# Altium footprint library 4816P-1-223LF.PCBLIB: 1 footprints
Each footprint in its own frame and in the unit in brackets; x right, y up, seen from the top. Pads: shape width x height; smd on the part's side, far side on the other; paste and mask are expansions set on the pad; w line width, h text height; cw(c..) or ccw(c..) is an arc to the next point about the centre after c.
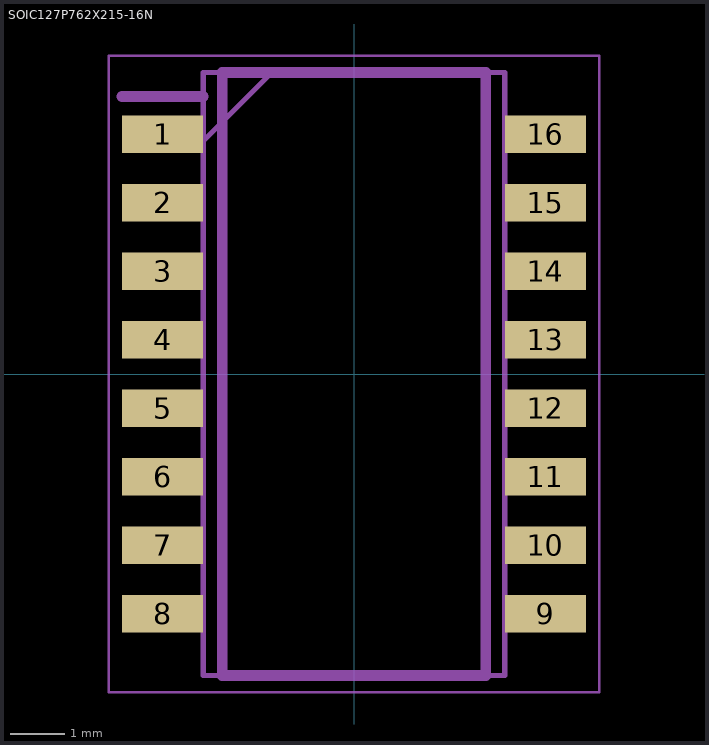
[diagram p0: the footprint, top view; thin cyan lines are the x and y axes]

## SOIC127P762X215-16N [mm]
pads (16):
  rect 1.505x0.7 smd: 1(-3.548,4.445) 2(-3.548,3.175) 3(-3.548,1.905) 4(-3.548,0.635) 5(-3.548,-0.635) 6(-3.548,-1.905) 7(-3.548,-3.175) 8(-3.548,-4.445) 9(3.548,-4.445) 10(3.548,-3.175) 11(3.548,-1.905) 12(3.548,-0.635) 13(3.548,0.635) 14(3.548,1.905) 15(3.548,3.175) 16(3.548,4.445)
Assembly Top:
  lines w0.05: -4.55,-5.9 4.55,-5.9 4.55,5.9 -4.55,5.9 -4.55,-5.9
  lines w0.1: -2.795,4.32 -1.525,5.59 ; -2.795,-5.59 2.795,-5.59 2.795,5.59 -2.795,5.59 -2.795,-5.59
Mechanical 22:
  lines w0.2: -4.3,5.145 -2.795,5.145 ; -2.445,-5.59 2.445,-5.59 2.445,5.59 -2.445,5.59 -2.445,-5.59